# Altium footprint library RESC6432X70N.PcbLib: 1 footprints
Each footprint in its own frame and in the unit in brackets; x right, y up, seen from the top. Pads: shape width x height; smd on the part's side, far side on the other; paste and mask are expansions set on the pad; w line width, h text height; cw(c..) or ccw(c..) is an arc to the next point about the centre after c.
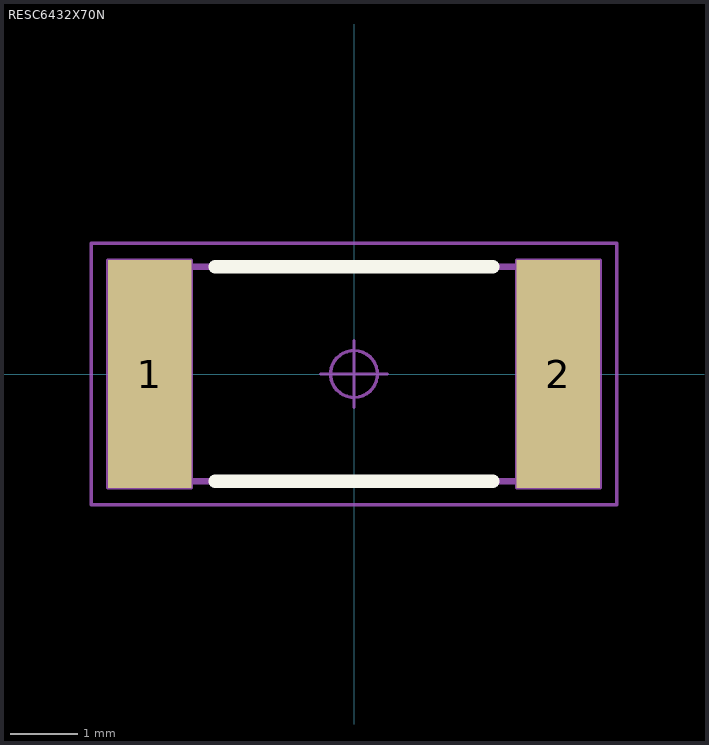
[diagram p0: the footprint, top view; thin cyan lines are the x and y axes]

## RESC6432X70N [mm] "EIA 2512, Metric 6432, 2-Leads, Resistor, Chip; 6.40mm L X 3.20mm W X 0.70mm H, IPC Medium Density"
height 0.7
pads (2):
  rect 1.25x3.4 smd: 1(-3.05,0) 2(3.05,0)
Top Overlay:
  lines w0.2: -2.075,-1.6 2.075,-1.6 ; -2.075,1.6 2.075,1.6
Mechanical 8:
  lines w0.05: -0.5,0 0,0 ; 0,-0.5 0,0 ; 0,0.5 0,0 ; 0.5,0 0,0 ; -3.675,-1.7 -3.675,1.7 ; -3.675,-1.7 -3.05,0 -3.675,1.7 ; -3.675,-1.7 -2.425,-1.7 -2.425,1.7 -3.675,1.7 ; 3.675,-1.7 3.675,1.7 ; 3.675,-1.7 3.05,0 3.675,1.7 ; 3.675,-1.7 2.425,-1.7 2.425,1.7 3.675,1.7
Mechanical 14:
  lines w0.1: -2.55,-1.6 -2.55,1.6 ; 2.55,-1.6 2.55,1.6 ; -3.2,-1.6 -3.2,1.6 3.2,1.6 3.2,-1.6 -3.2,-1.6
Mechanical 15:
  circle w0.05: c0,0 r0.35
  lines w0.05: -0.5,0 0.5,0 ; 0,-0.5 0,0.5 ; -3.925,-1.95 -3.925,1.95 3.925,1.95 3.925,-1.95 -3.925,-1.95
3D body "RESC6432X70N.stp": height 0.7, standoff 0, extent -3.2,-1.6 3.2,1.6